# Altium schematic symbol library USB.SchLib: 1 symbol
Pins are listed as number, name and electrical type; pins without a type are passive.

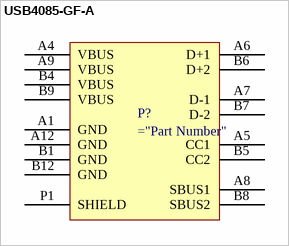
[diagram p0: symbol USB4085-GF-A]

## USB4085-GF-A
designator P?
pins: A1 GND, A4 VBUS, A5 CC1, A6 D+1, A7 D-1, A8 SBUS1, A9 VBUS, A12 GND, B1 GND, B4 VBUS, B5 CC2, B6 D+2, B7 D-2, B8 SBUS2, B9 VBUS, B12 GND, P1 SHIELD